# Altium footprint library pcblib.PcbLib: 2 footprints
Each footprint in its own frame and in the unit in brackets; x right, y up, seen from the top. Pads: shape width x height; smd on the part's side, far side on the other; paste and mask are expansions set on the pad; w line width, h text height; cw(c..) or ccw(c..) is an arc to the next point about the centre after c.
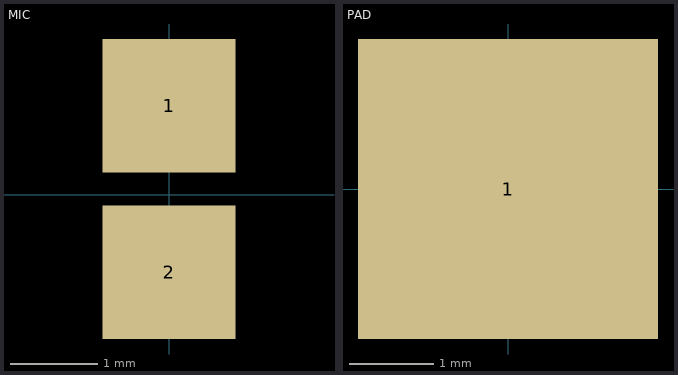
[diagram p0: the footprints below, top view; thin cyan lines are the x and y axes]

## MIC [mil]
pads (2):
  rect 60x60 smd: 1(0,40) 2(0,-35)

## PAD [mil]
pads (1):
  rect 140x140 smd: 1(0,0)